# Altium footprint library cpld.PcbLib: 3 footprints
Each footprint in its own frame and in the unit in brackets; x right, y up, seen from the top. Pads: shape width x height; smd on the part's side, far side on the other; paste and mask are expansions set on the pad; w line width, h text height; cw(c..) or ccw(c..) is an arc to the next point about the centre after c.
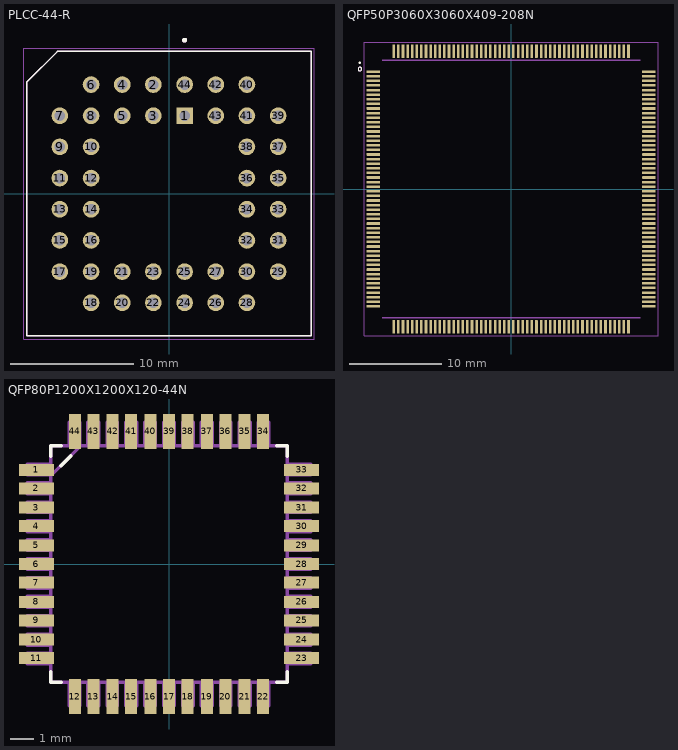
[diagram p0: the footprints below, top view; thin cyan lines are the x and y axes]

## PLCC-44-R [mm]
height 8.15
pads (44):
  rect 1.358x1.358 hole 0.85: 1(1.27,6.35)
  round 1.358 hole 0.85: 2(-1.27,8.89) 3(-1.27,6.35) 4(-3.81,8.89) 5(-3.81,6.35) 6(-6.35,8.89) 7(-8.89,6.35) 8(-6.35,6.35) 9(-8.89,3.81) 10(-6.35,3.81) 11(-8.89,1.27) 12(-6.35,1.27) 13(-8.89,-1.27) 14(-6.35,-1.27) 15(-8.89,-3.81) 16(-6.35,-3.81) 17(-8.89,-6.35) 18(-6.35,-8.89) 19(-6.35,-6.35) 20(-3.81,-8.89) 21(-3.81,-6.35) 22(-1.27,-8.89) 23(-1.27,-6.35) 24(1.27,-8.89) 25(1.27,-6.35) 26(3.81,-8.89) 27(3.81,-6.35) 28(6.35,-8.89) 29(8.89,-6.35) 30(6.35,-6.35) 31(8.89,-3.81) 32(6.35,-3.81) 33(8.89,-1.27) 34(6.35,-1.27) 35(8.89,1.27) 36(6.35,1.27) 37(8.89,3.81) 38(6.35,3.81) 39(8.89,6.35) 40(6.35,8.89) 41(6.35,6.35) 42(3.81,8.89) 43(3.81,6.35) 44(1.27,8.89)
Top Overlay:
  circle w0.2: c1.27,12.5 r0.1
  lines w0.127: -11.59,-11.59 -11.59,9.09 -9.09,11.59 11.59,11.59 11.59,-11.59 -11.59,-11.59
Mechanical 13:
  circle w0.2: c1.27,12.5 r0.1
  lines w0.127: -11.59,-11.59 11.59,-11.59 11.59,11.59 -9.09,11.59 -11.59,9.09 -11.59,-11.59
Mechanical 15:
  lines w0.05: -11.84,-11.84 -11.84,11.84 11.84,11.84 11.84,-11.84 -11.84,-11.84
3D body "step_temp.STEP": height 8.31, standoff -3.09, extent -11.74,-11.74 11.74,11.74
3D body "plcc-44.step": height 8.2, standoff 3.81, extent -8.813,-8.788 8.712,8.737

## QFP50P3060X3060X409-208N [mm]
pads (208):
  rrect25% 1.47x0.28 smd: 1(-14.97,12.75) 2(-14.97,12.25) 3(-14.97,11.75) 4(-14.97,11.25) 5(-14.97,10.75) 6(-14.97,10.25) 7(-14.97,9.75) 8(-14.97,9.25) 9(-14.97,8.75) 10(-14.97,8.25) 11(-14.97,7.75) 12(-14.97,7.25) 13(-14.97,6.75) 14(-14.97,6.25) 15(-14.97,5.75) 16(-14.97,5.25) 17(-14.97,4.75) 18(-14.97,4.25) 19(-14.97,3.75) 20(-14.97,3.25) 21(-14.97,2.75) 22(-14.97,2.25) 23(-14.97,1.75) 24(-14.97,1.25) 25(-14.97,0.75) 26(-14.97,0.25) 27(-14.97,-0.25) 28(-14.97,-0.75) 29(-14.97,-1.25) 30(-14.97,-1.75) 31(-14.97,-2.25) 32(-14.97,-2.75) 33(-14.97,-3.25) 34(-14.97,-3.75) 35(-14.97,-4.25) 36(-14.97,-4.75) 37(-14.97,-5.25) 38(-14.97,-5.75) 39(-14.97,-6.25) 40(-14.97,-6.75) 41(-14.97,-7.25) 42(-14.97,-7.75) 43(-14.97,-8.25) 44(-14.97,-8.75) 45(-14.97,-9.25) 46(-14.97,-9.75) 47(-14.97,-10.25) 48(-14.97,-10.75) 49(-14.97,-11.25) 50(-14.97,-11.75) 51(-14.97,-12.25) 52(-14.97,-12.75) 105(14.97,-12.75) 106(14.97,-12.25) 107(14.97,-11.75) 108(14.97,-11.25) 109(14.97,-10.75) 110(14.97,-10.25) 111(14.97,-9.75) 112(14.97,-9.25) 113(14.97,-8.75) 114(14.97,-8.25) 115(14.97,-7.75) 116(14.97,-7.25) 117(14.97,-6.75) 118(14.97,-6.25) 119(14.97,-5.75) 120(14.97,-5.25) 121(14.97,-4.75) 122(14.97,-4.25) 123(14.97,-3.75) 124(14.97,-3.25) 125(14.97,-2.75) 126(14.97,-2.25) 127(14.97,-1.75) 128(14.97,-1.25) 129(14.97,-0.75) 130(14.97,-0.25) 131(14.97,0.25) 132(14.97,0.75) 133(14.97,1.25) 134(14.97,1.75) 135(14.97,2.25) 136(14.97,2.75) 137(14.97,3.25) 138(14.97,3.75) 139(14.97,4.25) 140(14.97,4.75) 141(14.97,5.25) 142(14.97,5.75) 143(14.97,6.25) 144(14.97,6.75) 145(14.97,7.25) 146(14.97,7.75) 147(14.97,8.25) 148(14.97,8.75) 149(14.97,9.25) 150(14.97,9.75) 151(14.97,10.25) 152(14.97,10.75) 153(14.97,11.25) 154(14.97,11.75) 155(14.97,12.25) 156(14.97,12.75)
  rrect25% 0.28x1.47 smd: 53(-12.75,-14.97) 54(-12.25,-14.97) 55(-11.75,-14.97) 56(-11.25,-14.97) 57(-10.75,-14.97) 58(-10.25,-14.97) 59(-9.75,-14.97) 60(-9.25,-14.97) 61(-8.75,-14.97) 62(-8.25,-14.97) 63(-7.75,-14.97) 64(-7.25,-14.97) 65(-6.75,-14.97) 66(-6.25,-14.97) 67(-5.75,-14.97) 68(-5.25,-14.97) 69(-4.75,-14.97) 70(-4.25,-14.97) 71(-3.75,-14.97) 72(-3.25,-14.97) 73(-2.75,-14.97) 74(-2.25,-14.97) 75(-1.75,-14.97) 76(-1.25,-14.97) 77(-0.75,-14.97) 78(-0.25,-14.97) 79(0.25,-14.97) 80(0.75,-14.97) 81(1.25,-14.97) 82(1.75,-14.97) 83(2.25,-14.97) 84(2.75,-14.97) 85(3.25,-14.97) 86(3.75,-14.97) 87(4.25,-14.97) 88(4.75,-14.97) 89(5.25,-14.97) 90(5.75,-14.97) 91(6.25,-14.97) 92(6.75,-14.97) 93(7.25,-14.97) 94(7.75,-14.97) 95(8.25,-14.97) 96(8.75,-14.97) 97(9.25,-14.97) 98(9.75,-14.97) 99(10.25,-14.97) 100(10.75,-14.97) 101(11.25,-14.97) 102(11.75,-14.97) 103(12.25,-14.97) 104(12.75,-14.97) 157(12.75,14.97) 158(12.25,14.97) 159(11.75,14.97) 160(11.25,14.97) 161(10.75,14.97) 162(10.25,14.97) 163(9.75,14.97) 164(9.25,14.97) 165(8.75,14.97) 166(8.25,14.97) 167(7.75,14.97) 168(7.25,14.97) 169(6.75,14.97) 170(6.25,14.97) 171(5.75,14.97) 172(5.25,14.97) 173(4.75,14.97) 174(4.25,14.97) 175(3.75,14.97) 176(3.25,14.97) 177(2.75,14.97) 178(2.25,14.97) 179(1.75,14.97) 180(1.25,14.97) 181(0.75,14.97) 182(0.25,14.97) 183(-0.25,14.97) 184(-0.75,14.97) 185(-1.25,14.97) 186(-1.75,14.97) 187(-2.25,14.97) 188(-2.75,14.97) 189(-3.25,14.97) 190(-3.75,14.97) 191(-4.25,14.97) 192(-4.75,14.97) 193(-5.25,14.97) 194(-5.75,14.97) 195(-6.25,14.97) 196(-6.75,14.97) 197(-7.25,14.97) 198(-7.75,14.97) 199(-8.25,14.97) 200(-8.75,14.97) 201(-9.25,14.97) 202(-9.75,14.97) 203(-10.25,14.97) 204(-10.75,14.97) 205(-11.25,14.97) 206(-11.75,14.97) 207(-12.25,14.97) 208(-12.75,14.97)
Top Overlay:
  circle w0: c-16.44,13.03 r0.2
  lines w0.254: -16.485,13.716 -16.459,13.716
Mechanical 13:
  circle w0: c-16.44,13.03 r0.2
  lines w0.152: -14,-14 14,-14 ; -14,14 14,14
Mechanical 15:
  lines w0.05: -15.955,-15.955 -15.955,15.955 15.955,15.955 15.955,-15.955 -15.955,-15.955
3D body "PQ208.STEP": height 4.15, standoff -0.08, extent -15.291,-15.309 15.309,15.291

## QFP80P1200X1200X120-44N [mil]
pads (44):
  rect 58x20 smd: 1(-221,157) 2(-221,126) 3(-221,94) 4(-221,63) 5(-221,31) 6(-221,0) 7(-221,-31) 8(-221,-63) 9(-221,-94) 10(-221,-126) 11(-221,-157) 23(221,-157) 24(221,-126) 25(221,-94) 26(221,-63) 27(221,-31) 28(221,0) 29(221,31) 30(221,63) 31(221,94) 32(221,126) 33(221,157)
  rect 20x58 smd: 12(-157,-221) 13(-126,-221) 14(-94,-221) 15(-63,-221) 16(-31,-221) 17(0,-221) 18(31,-221) 19(63,-221) 20(94,-221) 21(126,-221) 22(157,-221) 34(157,221) 35(126,221) 36(94,221) 37(63,221) 38(31,221) 39(0,221) 40(-31,221) 41(-63,221) 42(-94,221) 43(-126,221) 44(-157,221)
Top Overlay:
  lines w6: -197,-180 -197,-197 -180,-197 ; -197,180 -197,197 -180,197 ; -180,164 -164,180 ; 180,-197 197,-197 197,-180 ; 180,197 197,197 197,180
Mechanical 13:
  drawing of 181 lines, arcs and shapes, not listed